# Altium integrated library OPT.IntLib: 1 symbol
Pins are listed as number, name and electrical type; pins without a type are passive.

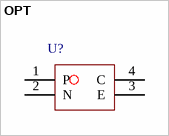
[diagram p0: symbol OPT]

## OPT
designator U?
footprint KP10104CTLD(SOP254P1000X350-4N) (SOP, 4-Leads, Body 4.6x6.5mm (max), Pitch 2.54mm, IPC Medium Density)
footprint EL357(SOP254P700X200-4N) (SOP, 4-Leads, Body 4.10x4.40mm, Pitch 2.54mm, IPC Medium Density)
footprint PS2701(SOP254P700X200-4N) (SOP, 4-Leads, Body 4.10x4.40mm, Pitch 2.54mm, IPC Medium Density)
pins: 1 P, 2 N, 3 E, 4 C